# EAGLE library part XF2M-1815-1A (library OMRON_ELECTRONIC_COMPONENTS_By_element14_Batch_1)
FFC/FPC CONNECTOR, RECEPTACLE 18POS 1ROW
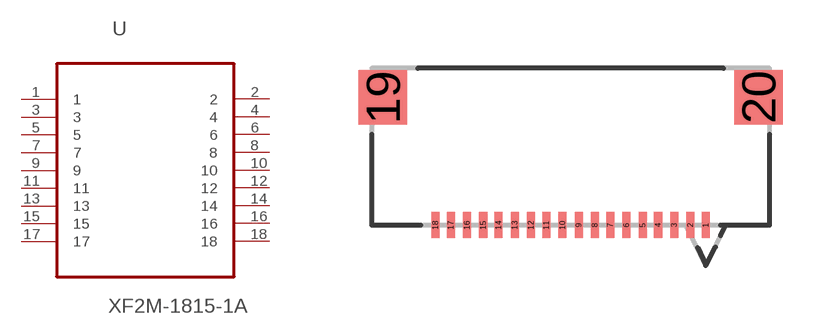
[diagram p3: symbol with the pads of OMRON_XF2M-1815-1A; footprint OMRON_XF2M-1815-1A]

Designator prefix U

## XF2M-1815-1A (MPN: XF2M-1815-1A; OC_FARNELL: 1391144; OC_NEWARK: 03M4577; PACKAGE: FFC/FPC CONNECTOR, RECEPTACLE 18POS 1ROW; SUPPLIER: OMRON ELECTRONIC COMPONENTS)  [OMRON_XF2M-1815-1A]
1  1  pas
2  2  pas
3  3  pas
4  4  pas
5  5  pas
6  6  pas
7  7  pas
8  8  pas
9  9  pas
10  10  pas
11  11  pas
12  12  pas
13  13  pas
14  14  pas
15  15  pas
16  16  pas
17  17  pas
18  18  pas

## Footprint OMRON_XF2M-1815-1A (pad centres in mm)
smd 0.254 x 0.813: 1 4.242,2.438; 2 3.759,2.438; 3 3.251,2.438; 4 2.743,2.438; 5 2.261,2.438; 6 1.753,2.438; 7 1.245,2.438; 8 0.762,2.438; 9 0.254,2.438; 10 -0.254,2.438; 11 -0.762,2.438; 12 -1.245,2.438; 13 -1.753,2.438; 14 -2.261,2.438; 15 -2.743,2.438; 16 -3.251,2.438; 17 -3.759,2.438; 18 -4.242,2.438
smd 1.524 x 1.702: 19 -5.893,6.452; 20 5.893,6.452